# Altium footprint library PG-HSOG-8-1_Infineon.PcbLib: 1 footprints
Each footprint in its own frame and in the unit in brackets; x right, y up, seen from the top. Pads: shape width x height; smd on the part's side, far side on the other; paste and mask are expansions set on the pad; w line width, h text height; cw(c..) or ccw(c..) is an arc to the next point about the centre after c.
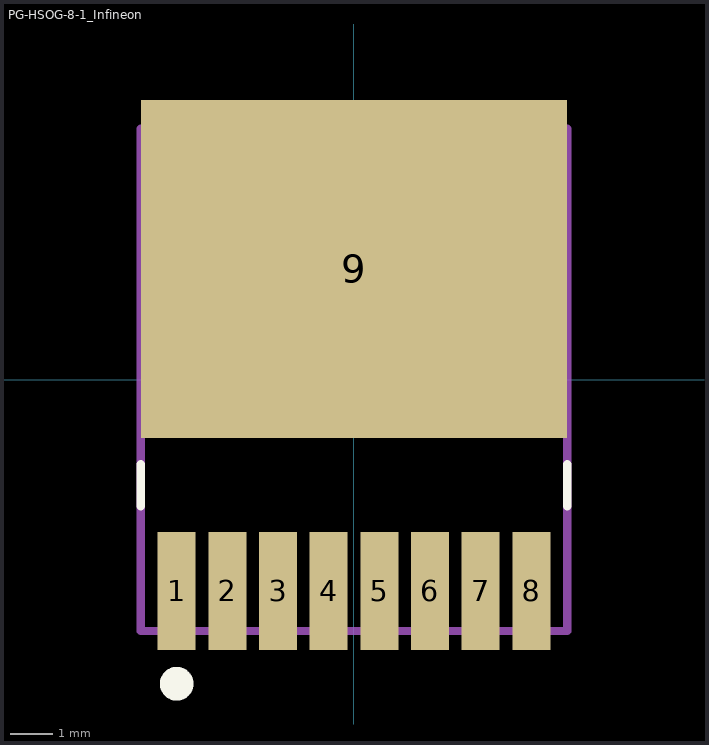
[diagram p0: the footprint, top view; thin cyan lines are the x and y axes]

## PG-HSOG-8-1_Infineon [mm]
height 2.3
pads (9):
  rect 0.9x2.8 smd mask+0: 1(-4.2,-5) 2(-3,-5) 3(-1.8,-5) 4(-0.6,-5) 5(0.6,-5) 6(1.8,-5) 7(3,-5) 8(4.2,-5)
  rect 10.1x8 smd mask+0: 9(0,2.625)
Top Overlay:
  circle w0.4: c-4.2,-7.2 r0.2
  lines w0.2: -5.05,-3 -5.05,-2 ; 5.05,-3 5.05,-2
Mechanical 13:
  lines w0.2: -5.05,-5.95 -5.05,5.95 5.05,5.95 5.05,-5.95 -5.05,-5.95
Mechanical 15:
  lines w0.2: -0.5,0 0,0 ; 0,-0.5 0,0 ; 0.5,0 0,0 ; 0,0 0,0.5 0,0
3D body: height 2.3, standoff 0, extent -5.05,-5.95 5.05,5.95